# Altium footprint library PRPC004SAAN-RC.PcbLib: 1 footprints
Each footprint in its own frame and in the unit in brackets; x right, y up, seen from the top. Pads: shape width x height; smd on the part's side, far side on the other; paste and mask are expansions set on the pad; w line width, h text height; cw(c..) or ccw(c..) is an arc to the next point about the centre after c.
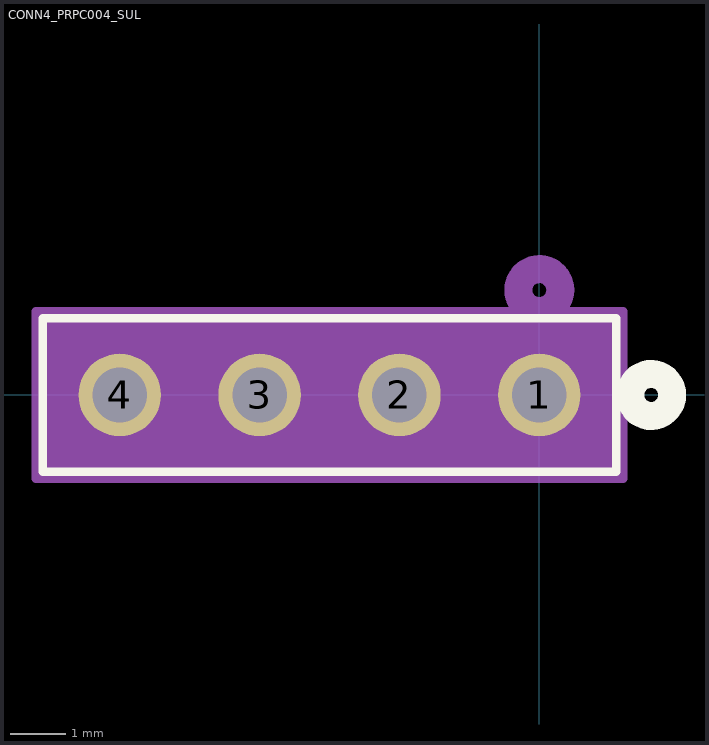
[diagram p0: the footprint, top view; thin cyan lines are the x and y axes]

## CONN4_PRPC004_SUL [mil]
pads (4):
  round 59 / inner round 60 / far side round 59 hole 39 paste-99999 mask+0: 1(0,0) 2(-100,0) 3(-200,0) 4(-300,0)
Top Overlay:
  circle w20: c80,0 r15
  lines w6: -355,-55 -355,55 55,55 55,-55 -355,-55
Bottom Overlay:
  circle w20: c80,0 r15
Mechanical 13:
  circle w20: c0,75 r15
  lines w1: -350,-50 -350,50 50,50 50,-50 -350,-50
Mechanical 15:
  region: 60,60 -360,60 -360,-60 60,-60
  lines w6: -360,-60 60,-60 60,60 -360,60 -360,-60
3D body "PRPC004SAAN-RC.stp": height 340.16, standoff -131.89, extent -350,-50 50,50